# EAGLE library part SN74HC163NSR (library SN74HC163NSR)
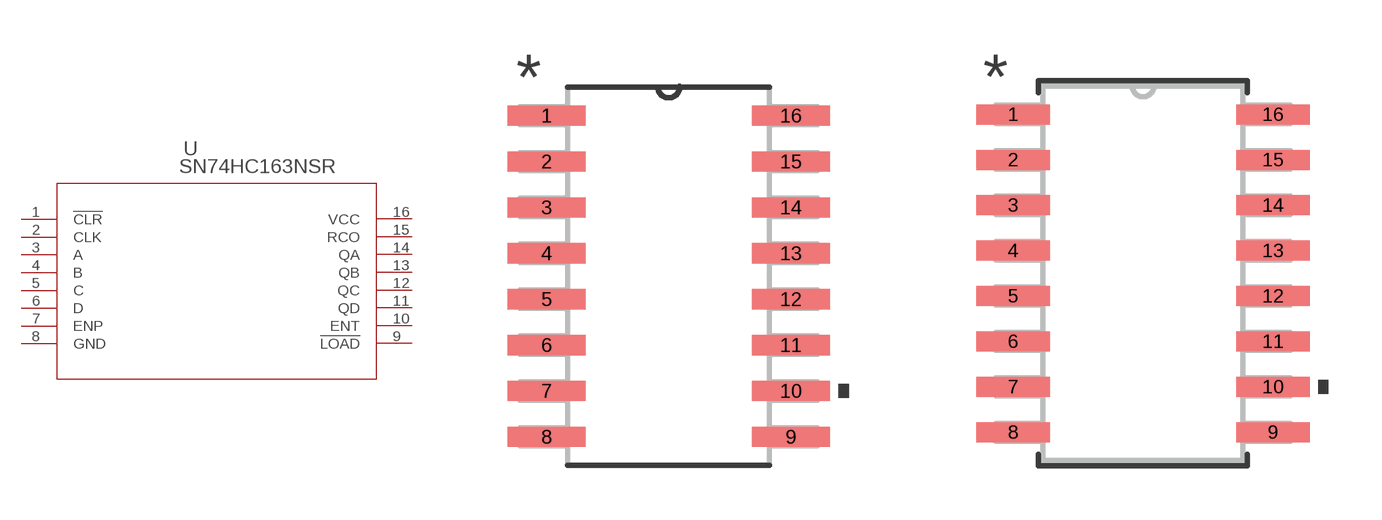
[diagram p0: symbol with the pads of NS16; footprints NS16, NS16-M]

Designator prefix U

## SN74HC163NSR (COPYRIGHT: Copyright (C) 2024 Ultra Librarian. All rights reserved.; MANUFACTURER_PART_NUMBER: SN74HC163NSR; MFR_NAME: Texas Instruments)  [NS16]
1  !CLR  in
2  CLK  in
3  A  in
4  B  in
5  C  in
6  D  in
7  ENP  in
8  GND  pwr
9  !LOAD  in
10  ENT  in
11  QD  out
12  QC  out
13  QB  out
14  QA  out
15  RCO  out
16  VCC  pwr

## SN74HC163NSRNS16-M (COPYRIGHT: Copyright (C) 2024 Ultra Librarian. All rights reserved.; MANUFACTURER_PART_NUMBER: SN74HC163NSR; MFR_NAME: Texas Instruments)  [NS16-M]
Pads as for NS16

## SN74HC163NSRNS16-L (COPYRIGHT: Copyright (C) 2024 Ultra Librarian. All rights reserved.; MANUFACTURER_PART_NUMBER: SN74HC163NSR; MFR_NAME: Texas Instruments)  [NS16-L]
Pads as for NS16

## Footprint NS16 (pad centres in mm)
smd 2.159 x 0.559: 1 -3.378,4.445; 2 -3.378,3.175; 3 -3.378,1.905; 4 -3.378,0.635; 5 -3.378,-0.635; 6 -3.378,-1.905; 7 -3.378,-3.175; 8 -3.378,-4.445; 9 3.378,-4.445; 10 3.378,-3.175; 11 3.378,-1.905; 12 3.378,-0.635; 13 3.378,0.635; 14 3.378,1.905; 15 3.378,3.175; 16 3.378,4.445

## Footprint NS16-M (pad centres in mm)
smd 2.057 x 0.559: 1 -3.632,4.445; 2 -3.632,3.175; 3 -3.632,1.905; 4 -3.632,0.635; 5 -3.632,-0.635; 6 -3.632,-1.905; 7 -3.632,-3.175; 8 -3.632,-4.445; 9 3.632,-4.445; 10 3.632,-3.175; 11 3.632,-1.905; 12 3.632,-0.635; 13 3.632,0.635; 14 3.632,1.905; 15 3.632,3.175; 16 3.632,4.445

## Footprint NS16-L (pad centres in mm)
smd 1.448 x 0.508: 1 -3.531,4.445; 2 -3.531,3.175; 3 -3.531,1.905; 4 -3.531,0.635; 5 -3.531,-0.635; 6 -3.531,-1.905; 7 -3.531,-3.175; 8 -3.531,-4.445; 9 3.531,-4.445; 10 3.531,-3.175; 11 3.531,-1.905; 12 3.531,-0.635; 13 3.531,0.635; 14 3.531,1.905; 15 3.531,3.175; 16 3.531,4.445